# Altium schematic symbol library IC-FPGA.SchLib: 3 symbols
Pins are listed as number, name and electrical type; pins without a type are passive.

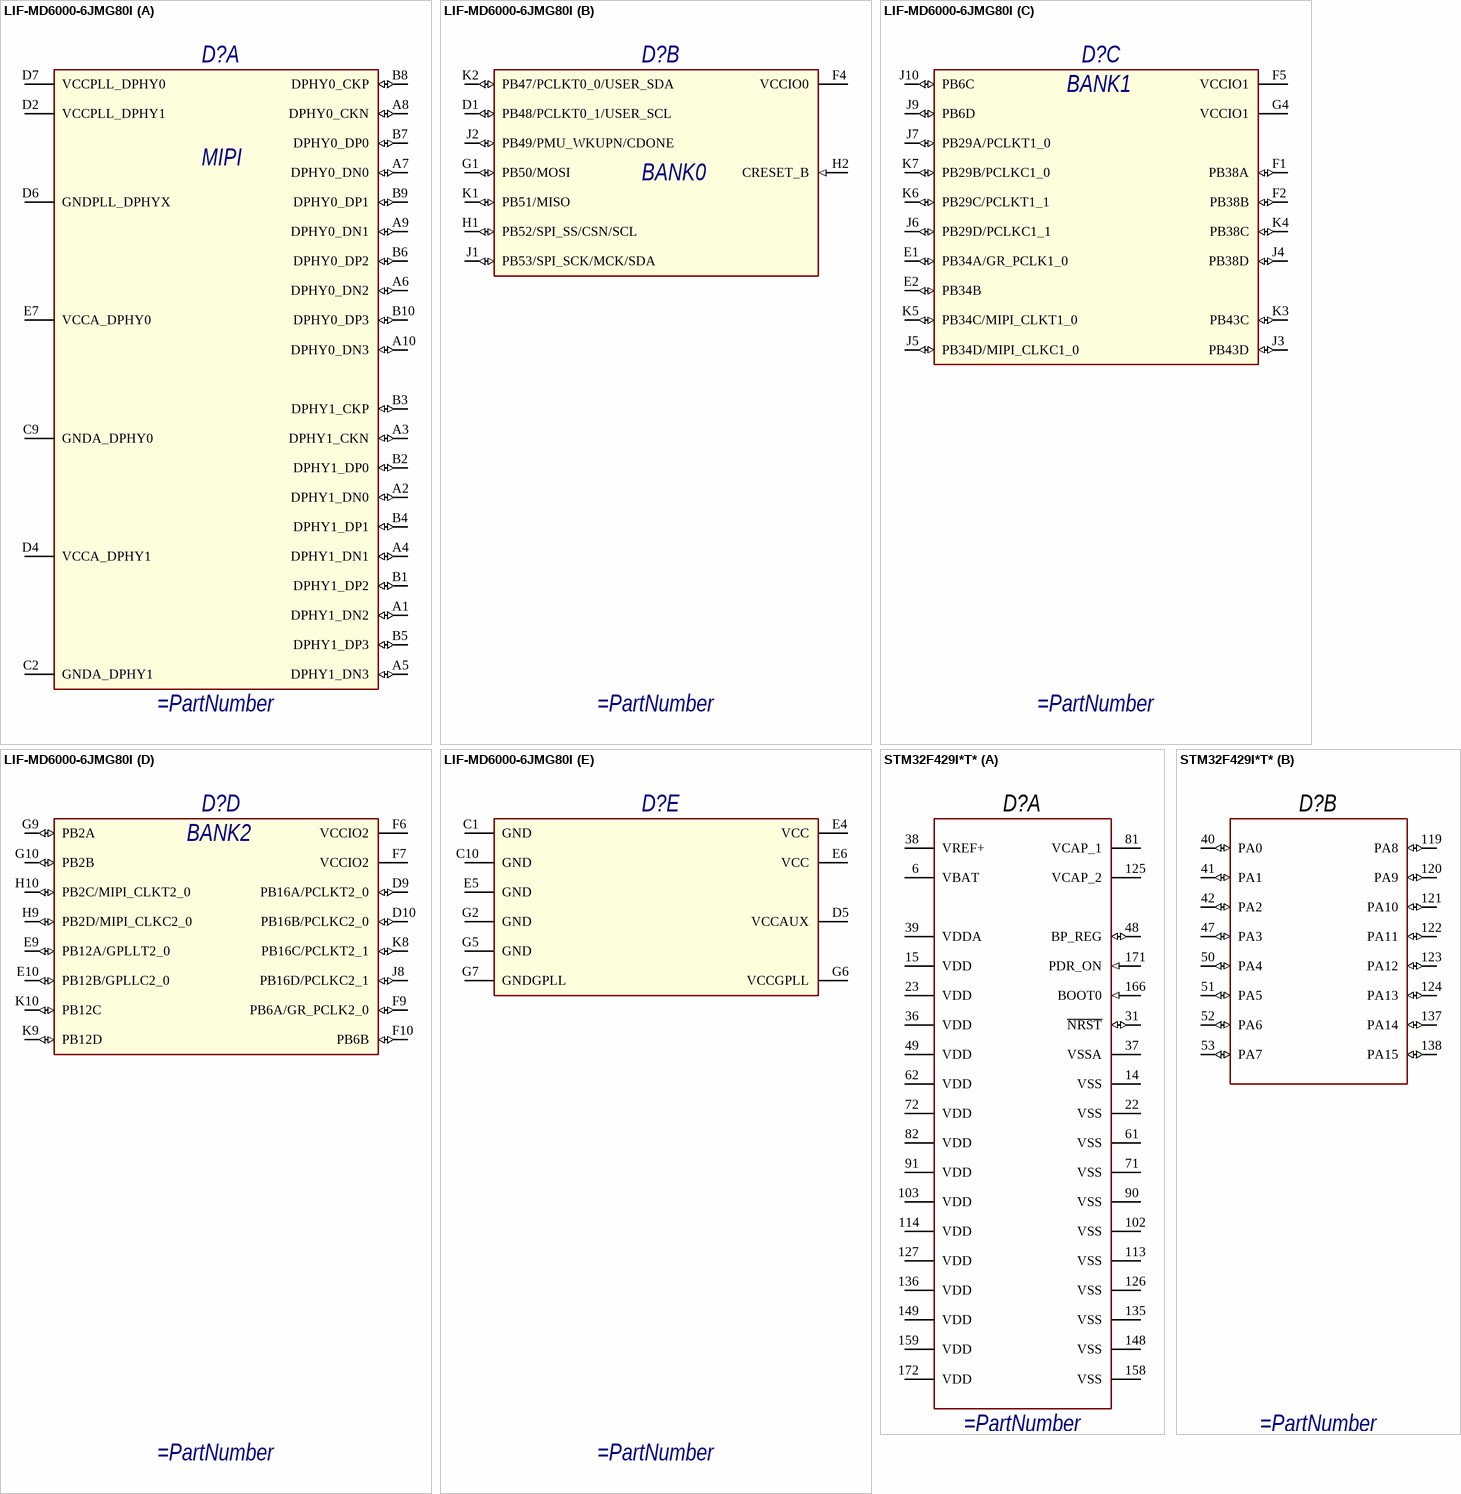
[diagram p0: symbols LIF-MD6000-6JMG80I to STM32F429I*T*]

## LIF-MD6000-6JMG80I
designator D?
part A pins: A1 DPHY1_DN2 (io), A2 DPHY1_DN0 (io), A3 DPHY1_CKN (io), A4 DPHY1_DN1 (io), A5 DPHY1_DN3 (io), A6 DPHY0_DN2 (io), A7 DPHY0_DN0 (io), A8 DPHY0_CKN (io), A9 DPHY0_DN1 (io), A10 DPHY0_DN3 (io), B1 DPHY1_DP2 (io), B2 DPHY1_DP0 (io), B3 DPHY1_CKP (io), B4 DPHY1_DP1 (io), B5 DPHY1_DP3 (io), B6 DPHY0_DP2 (io), B7 DPHY0_DP0 (io), B8 DPHY0_CKP (io), B9 DPHY0_DP1 (io), B10 DPHY0_DP3 (io), C2 GNDA_DPHY1 (power), C9 GNDA_DPHY0 (power), D2 VCCPLL_DPHY1 (power), D4 VCCA_DPHY1 (power), D6 GNDPLL_DPHYX (power), D7 VCCPLL_DPHY0 (power), E7 VCCA_DPHY0 (power)
part B pins: D1 PB48/PCLKT0_1/USER_SCL (io), F4 VCCIO0 (power), G1 PB50/MOSI (io), H1 PB52/SPI_SS/CSN/SCL (io), H2 CRESET_B (in), J1 PB53/SPI_SCK/MCK/SDA (io), J2 PB49/PMU_WKUPN/CDONE (io), K1 PB51/MISO (io), K2 PB47/PCLKT0_0/USER_SDA (io)
part C pins: E1 PB34A/GR_PCLK1_0 (io), E2 PB34B (io), F1 PB38A (io), F2 PB38B (io), F5 VCCIO1 (power), G4 VCCIO1 (power), J3 PB43D (io), J4 PB38D (io), J5 PB34D/MIPI_CLKC1_0 (io), J6 PB29D/PCLKC1_1 (io), J7 PB29A/PCLKT1_0 (io), J9 PB6D (io), J10 PB6C (io), K3 PB43C (io), K4 PB38C (io), K5 PB34C/MIPI_CLKT1_0 (io), K6 PB29C/PCLKT1_1 (io), K7 PB29B/PCLKC1_0 (io)
part D pins: D9 PB16A/PCLKT2_0 (io), D10 PB16B/PCLKC2_0 (io), E9 PB12A/GPLLT2_0 (io), E10 PB12B/GPLLC2_0 (io), F6 VCCIO2 (power), F7 VCCIO2 (power), F9 PB6A/GR_PCLK2_0 (io), F10 PB6B (io), G9 PB2A (io), G10 PB2B (io), H9 PB2D/MIPI_CLKC2_0 (io), H10 PB2C/MIPI_CLKT2_0 (io), J8 PB16D/PCLKC2_1 (io), K8 PB16C/PCLKT2_1 (io), K9 PB12D (io), K10 PB12C (io)
part E pins: C1 GND (power), C10 GND (power), D5 VCCAUX (power), E4 VCC (power), E5 GND (power), E6 VCC (power), G2 GND (power), G5 GND (power), G6 VCCGPLL (power), G7 GNDGPLL (power)
part A text: MIPI
part B text: BANK0
part C text: BANK1
part D text: BANK2

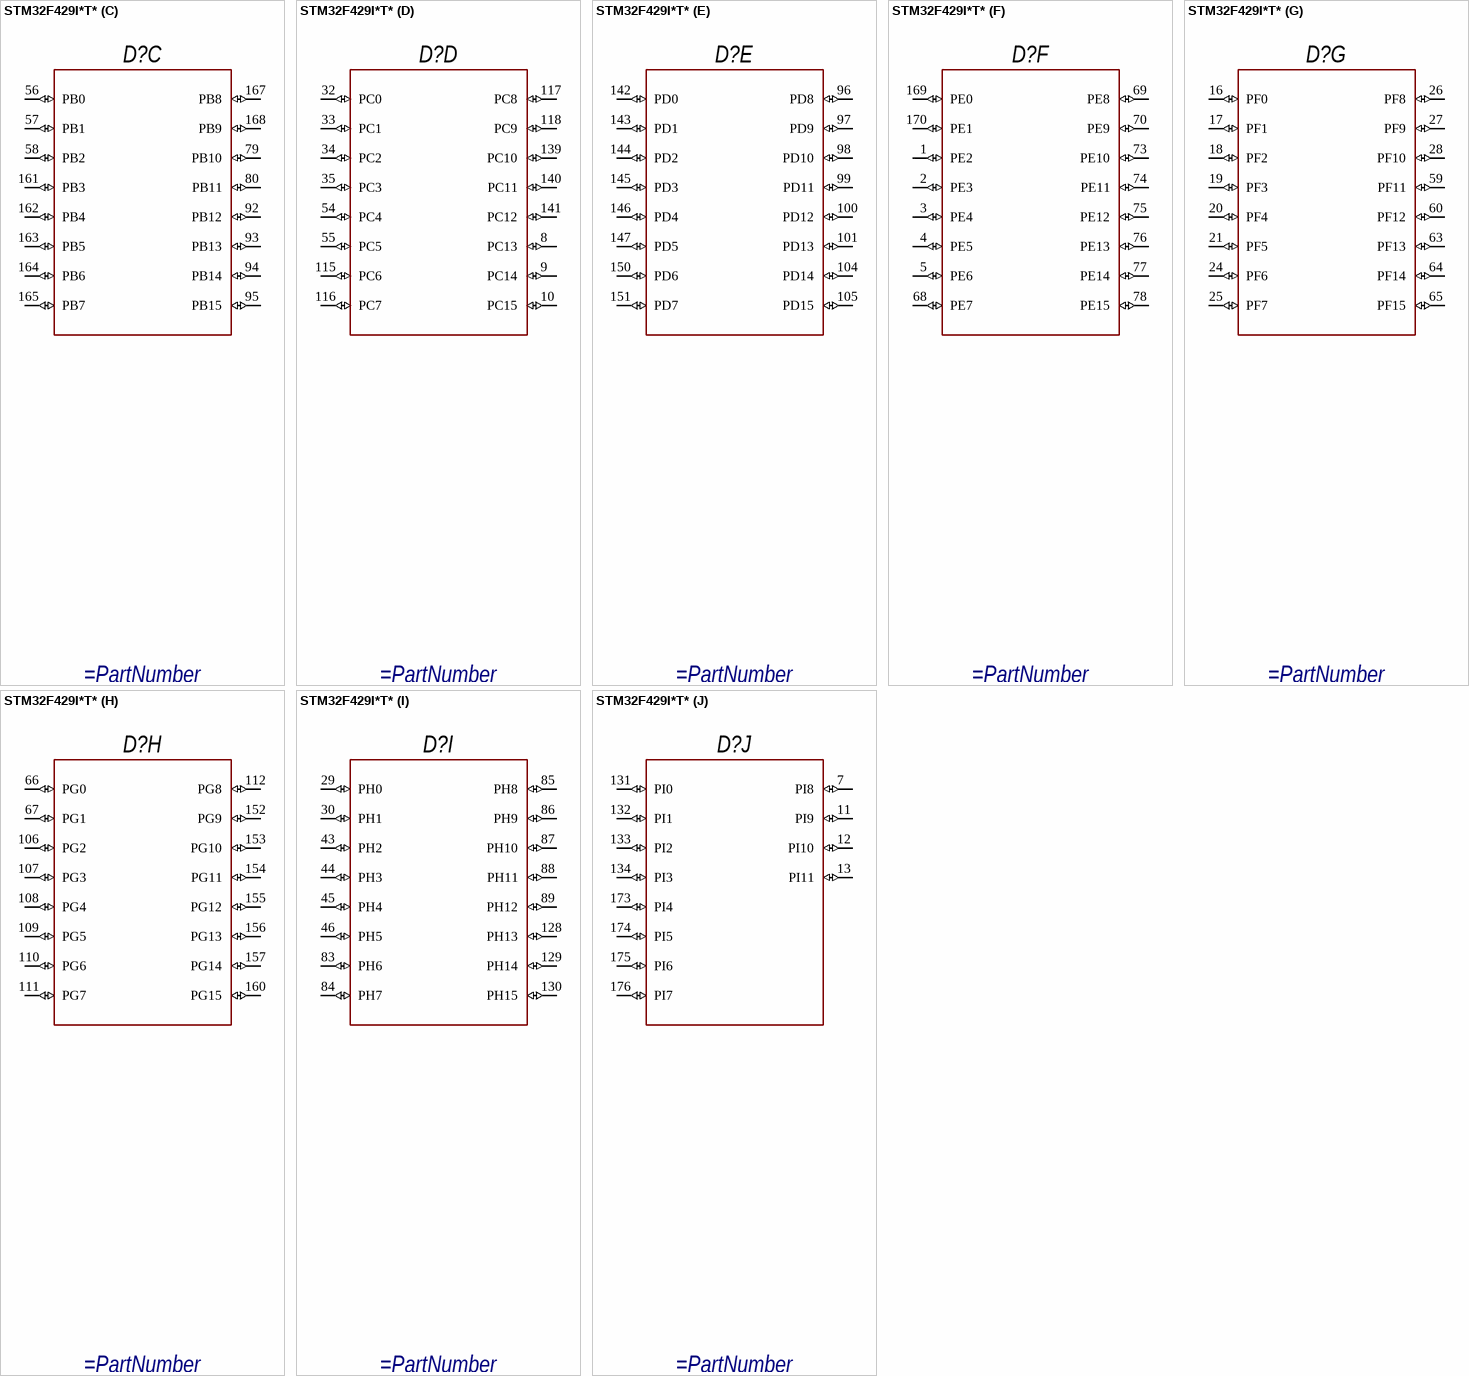
[diagram p1: symbol STM32F429I*T*]

## STM32F429I*T*
designator D?
part A pins: 6 VBAT (power), 14 VSS, 15 VDD (power), 22 VSS, 23 VDD (power), 31 ~{NRST} (io), 36 VDD (power), 37 VSSA, 38 VREF+ (power), 39 VDDA (power), 48 BP_REG (io), 49 VDD (power), 61 VSS, 62 VDD (power), 71 VSS, 72 VDD (power), 81 VCAP_1 (power), 82 VDD (power), 90 VSS, 91 VDD (power), 102 VSS, 103 VDD (power), 113 VSS, 114 VDD (power), 125 VCAP_2 (power), 126 VSS, 127 VDD (power), 135 VSS, 136 VDD (power), 148 VSS, 149 VDD (power), 158 VSS, 159 VDD (power), 166 BOOT0 (in), 171 PDR_ON (in), 172 VDD (power)
part B pins: 40 PA0 (io), 41 PA1 (io), 42 PA2 (io), 47 PA3 (io), 50 PA4 (io), 51 PA5 (io), 52 PA6 (io), 53 PA7 (io), 119 PA8 (io), 120 PA9 (io), 121 PA10 (io), 122 PA11 (io), 123 PA12 (io), 124 PA13 (io), 137 PA14 (io), 138 PA15 (io)
part C pins: 56 PB0 (io), 57 PB1 (io), 58 PB2 (io), 79 PB10 (io), 80 PB11 (io), 92 PB12 (io), 93 PB13 (io), 94 PB14 (io), 95 PB15 (io), 161 PB3 (io), 162 PB4 (io), 163 PB5 (io), 164 PB6 (io), 165 PB7 (io), 167 PB8 (io), 168 PB9 (io)
part D pins: 8 PC13 (io), 9 PC14 (io), 10 PC15 (io), 32 PC0 (io), 33 PC1 (io), 34 PC2 (io), 35 PC3 (io), 54 PC4 (io), 55 PC5 (io), 115 PC6 (io), 116 PC7 (io), 117 PC8 (io), 118 PC9 (io), 139 PC10 (io), 140 PC11 (io), 141 PC12 (io)
part E pins: 96 PD8 (io), 97 PD9 (io), 98 PD10 (io), 99 PD11 (io), 100 PD12 (io), 101 PD13 (io), 104 PD14 (io), 105 PD15 (io), 142 PD0 (io), 143 PD1 (io), 144 PD2 (io), 145 PD3 (io), 146 PD4 (io), 147 PD5 (io), 150 PD6 (io), 151 PD7 (io)
part F pins: 1 PE2 (io), 2 PE3 (io), 3 PE4 (io), 4 PE5 (io), 5 PE6 (io), 68 PE7 (io), 69 PE8 (io), 70 PE9 (io), 73 PE10 (io), 74 PE11 (io), 75 PE12 (io), 76 PE13 (io), 77 PE14 (io), 78 PE15 (io), 169 PE0 (io), 170 PE1 (io)
part G pins: 16 PF0 (io), 17 PF1 (io), 18 PF2 (io), 19 PF3 (io), 20 PF4 (io), 21 PF5 (io), 24 PF6 (io), 25 PF7 (io), 26 PF8 (io), 27 PF9 (io), 28 PF10 (io), 59 PF11 (io), 60 PF12 (io), 63 PF13 (io), 64 PF14 (io), 65 PF15 (io)
part H pins: 66 PG0 (io), 67 PG1 (io), 106 PG2 (io), 107 PG3 (io), 108 PG4 (io), 109 PG5 (io), 110 PG6 (io), 111 PG7 (io), 112 PG8 (io), 152 PG9 (io), 153 PG10 (io), 154 PG11 (io), 155 PG12 (io), 156 PG13 (io), 157 PG14 (io), 160 PG15 (io)
part I pins: 29 PH0 (io), 30 PH1 (io), 43 PH2 (io), 44 PH3 (io), 45 PH4 (io), 46 PH5 (io), 83 PH6 (io), 84 PH7 (io), 85 PH8 (io), 86 PH9 (io), 87 PH10 (io), 88 PH11 (io), 89 PH12 (io), 128 PH13 (io), 129 PH14 (io), 130 PH15 (io)
part J pins: 7 PI8 (io), 11 PI9 (io), 12 PI10 (io), 13 PI11 (io), 131 PI0 (io), 132 PI1 (io), 133 PI2 (io), 134 PI3 (io), 173 PI4 (io), 174 PI5 (io), 175 PI6 (io), 176 PI7 (io)

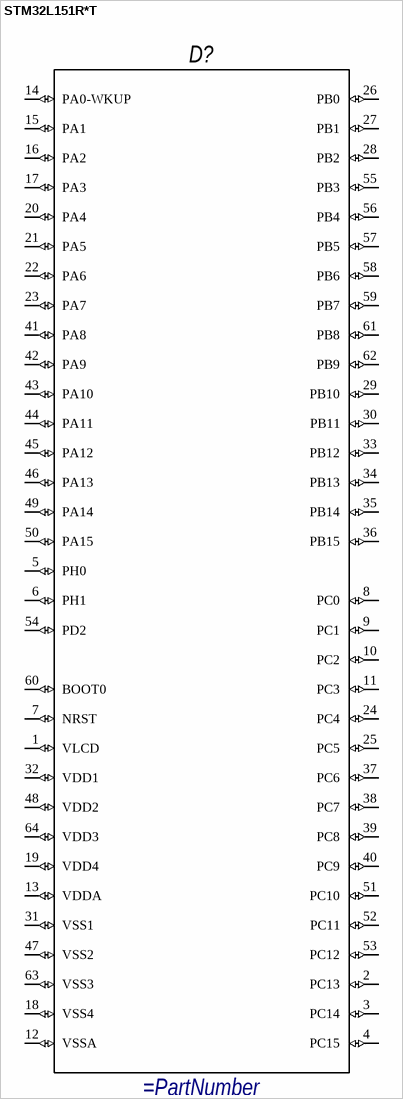
[diagram p2: symbol STM32L151R*T]

## STM32L151R*T
designator D?
STM32L151 LQFP64
pins: 1 VLCD (io), 2 PC13 (io), 3 PC14 (io), 4 PC15 (io), 5 PH0 (io), 6 PH1 (io), 7 NRST (io), 8 PC0 (io), 9 PC1 (io), 10 PC2 (io), 11 PC3 (io), 12 VSSA (io), 13 VDDA (io), 14 PA0-WKUP (io), 15 PA1 (io), 16 PA2 (io), 17 PA3 (io), 18 VSS4 (io), 19 VDD4 (io), 20 PA4 (io), 21 PA5 (io), 22 PA6 (io), 23 PA7 (io), 24 PC4 (io), 25 PC5 (io), 26 PB0 (io), 27 PB1 (io), 28 PB2 (io), 29 PB10 (io), 30 PB11 (io), 31 VSS1 (io), 32 VDD1 (io), 33 PB12 (io), 34 PB13 (io), 35 PB14 (io), 36 PB15 (io), 37 PC6 (io), 38 PC7 (io), 39 PC8 (io), 40 PC9 (io), 41 PA8 (io), 42 PA9 (io), 43 PA10 (io), 44 PA11 (io), 45 PA12 (io), 46 PA13 (io), 47 VSS2 (io), 48 VDD2 (io), 49 PA14 (io), 50 PA15 (io), 51 PC10 (io), 52 PC11 (io), 53 PC12 (io), 54 PD2 (io), 55 PB3 (io), 56 PB4 (io), 57 PB5 (io), 58 PB6 (io), 59 PB7 (io), 60 BOOT0 (io), 61 PB8 (io), 62 PB9 (io), 63 VSS3 (io), 64 VDD3 (io)